# Altium footprint library Misc.PcbLib: 133 footprints (part 8 of 9)
Each footprint in its own frame and in the unit in brackets; x right, y up, seen from the top. Pads: shape width x height; smd on the part's side, far side on the other; paste and mask are expansions set on the pad; w line width, h text height; cw(c..) or ccw(c..) is an arc to the next point about the centre after c.
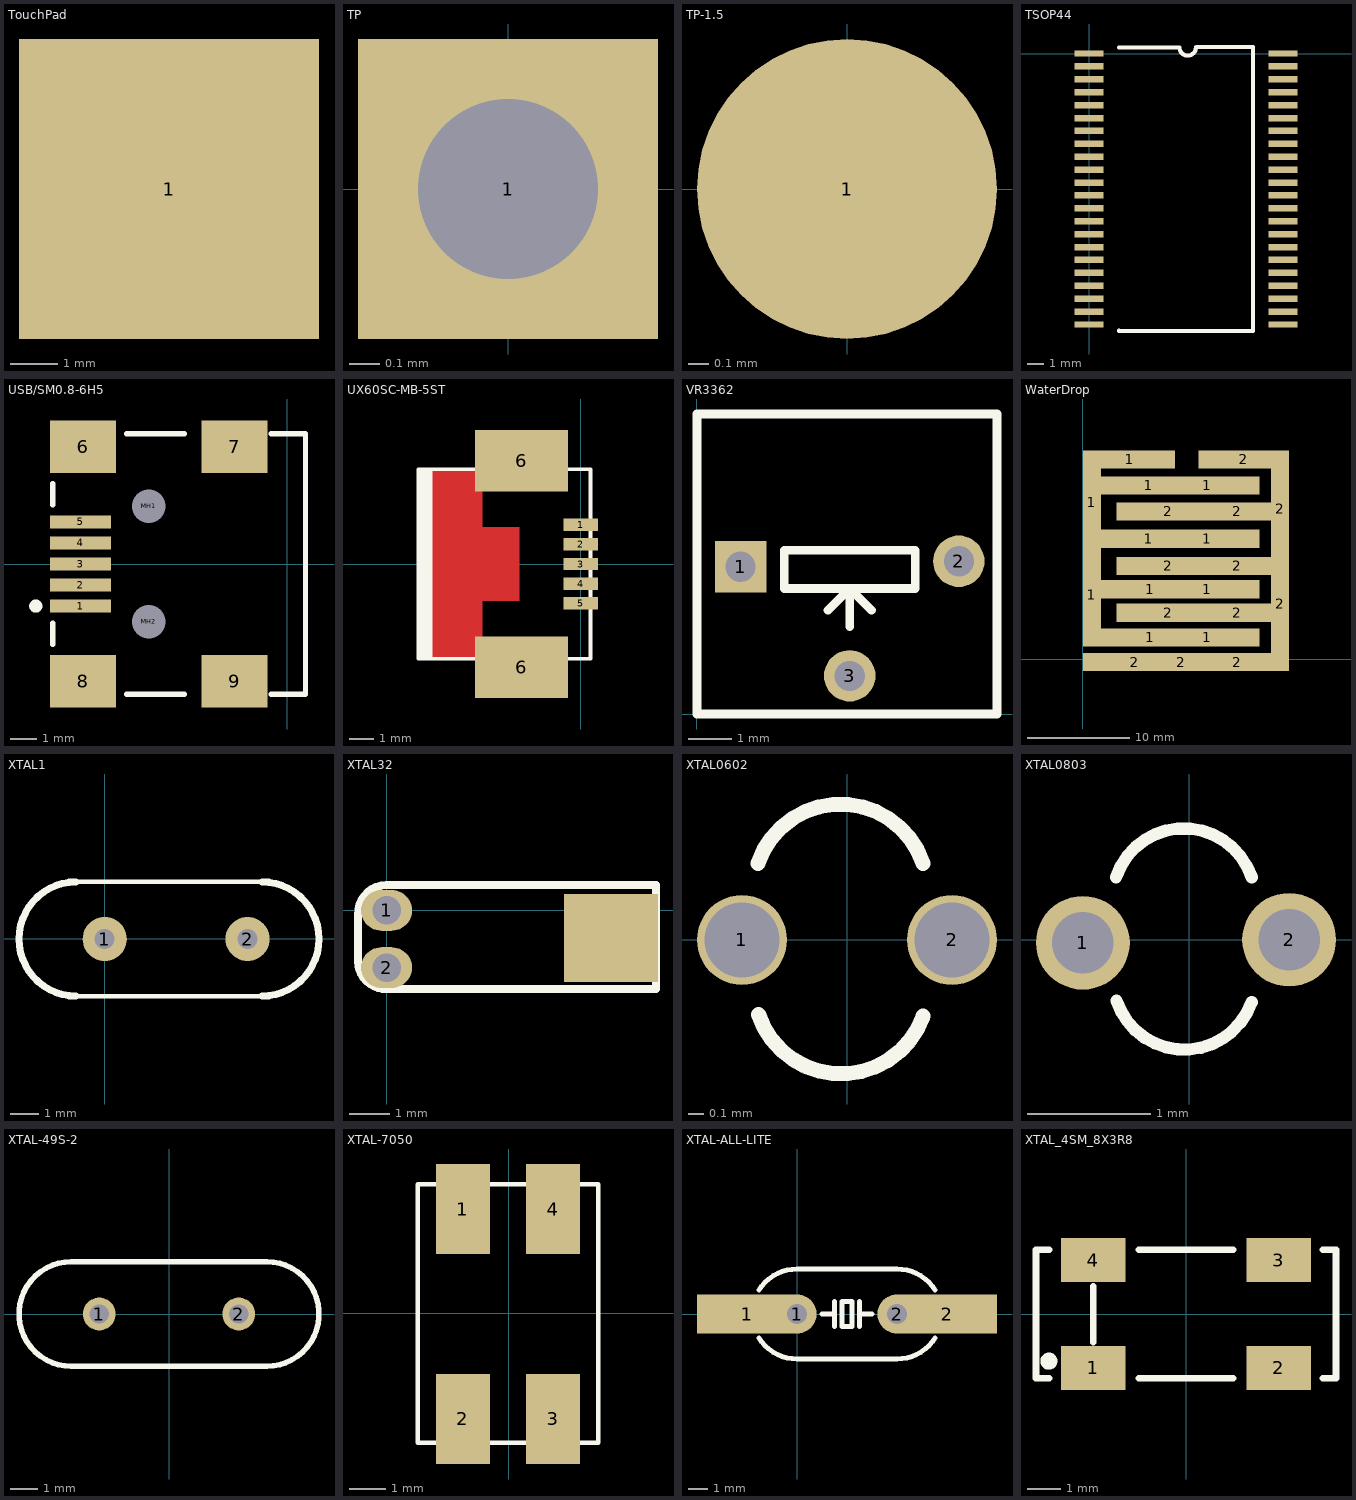
[diagram p7: the footprints below, top view; thin cyan lines are the x and y axes]

## TouchPad [mil] "PCB TouchPad"
pads (1):
  rect 250x250 smd: 1(-49510,-49455)

## TP [mm] "2.00MM Hole"
pads (1):
  rect 1x1 hole 0.6: 1(0,0)

## TP-1.5 [mm]
pads (1):
  round 1.5 smd: 1(0,0)

## TSOP44 [mm]
pads (44):
  rect 1.8x0.4 smd: 1(-0.009,0.001) 2(-0.009,-0.799) 3(-0.009,-1.599) 4(-0.009,-2.399) 5(-0.009,-3.199) 6(-0.009,-3.999) 7(-0.009,-4.799) 8(-0.009,-5.599) 9(-0.009,-6.399) 10(-0.009,-7.199) 11(-0.009,-7.999) 12(-0.009,-8.799) 13(-0.009,-9.599) 14(-0.009,-10.399) 15(-0.009,-11.199) 16(-0.009,-11.999) 17(-0.009,-12.799) 18(-0.009,-13.599) 19(-0.009,-14.399) 20(-0.009,-15.199) 21(-0.009,-15.999) 22(-0.009,-16.799) 23(11.991,-16.799) 24(11.991,-15.999) 25(11.991,-15.199) 26(11.991,-14.399) 27(11.991,-13.599) 28(11.991,-12.799) 29(11.991,-11.999) 30(11.991,-11.199) 31(11.991,-10.399) 32(11.991,-9.599) 33(11.991,-8.799) 34(11.991,-7.999) 35(11.991,-7.199) 36(11.991,-6.399) 37(11.991,-5.599) 38(11.991,-4.799) 39(11.991,-3.999) 40(11.991,-3.199) 41(11.991,-2.399) 42(11.991,-1.599) 43(11.991,-0.799) 44(11.991,0.001)
Top Overlay:
  lines w0.2: 1.826,-17.199 10.156,-17.199
  lines w0.254: 1.846,-17.18 1.826,-17.199 10.156,-17.199 10.156,0.401 6.624,0.401 ; 1.846,0.381 5.588,0.381 ccw(c6.096,0.381) 6.604,0.381

## USB/SM0.8-6H5 [mm]
pads (11):
  rect 2.3x0.5 smd: 1(-7.85,-1.6) 2(-7.85,-0.8) 3(-7.85,0) 4(-7.85,0.8) 5(-7.85,1.6)
  rect 2.5x2 smd: 6(-7.75,4.45) 7(-1.996,4.45) 8(-7.75,-4.45) 9(-1.996,-4.45)
  round 0.6 hole 1.27 unplated: MH1(-5.25,2.2) MH2(-5.25,-2.2)
Top Overlay:
  circle w0.25: c-9.55,-1.6 r0.125
  lines w0.2: -8.9,-3.05 -8.9,-2.25 ; -8.9,2.25 -8.9,3.05 ; -6.1,-4.95 -3.9,-4.95 ; -6.1,4.95 -3.9,4.95 ; -0.6,-4.95 0.7,-4.95 0.7,4.95 -0.6,4.95

## UX60SC-MB-5ST [mm] "Mini USB B/AB female"
height 3.95
pads (7):
  rect 1.4x0.5 smd: 1(0,1.6) 2(0,0.8) 3(0,0) 4(0,-0.8) 5(0,-1.6)
  rect 3.8x2.5 smd: 6(-2.4,-4.2) 6(-2.4,4.2)
Top Layer:
  pour cut-out: -6.6,3.85 -6.6,-3.85 -4,-3.85 -4,-1.5 -2.5,-1.5 -2.5,1.5 -4,1.5 -4,3.85
Top Overlay:
  rectangle: -6.6,-3.84 -6.1,3.84
  lines w0.152: -6.1,-3.85 -6.1,3.85 ; -6.6,-3.85 0.4,-3.85 0.4,3.85 -6.6,3.85 -6.6,-3.85
3D body: height 3.95, standoff 0, extent -6.6,-4.9 0.4,4.9

## VR3362 [mm] "Thru-Hole; 3 Leads"
height 3.9
pads (3):
  rect 1.2x1.2 hole 0.7: 1(1.016,3.429)
  round 1.2 hole 0.7: 2(6.096,3.556) 3(3.556,0.889)
Top Overlay:
  lines w0.2: 0,0 0,6.985 6.985,6.985 6.985,0 0,0
  lines w0.203: 3.048,2.413 3.556,2.921 3.556,2.032 ; 3.683,2.794 4.064,2.413 ; 2.032,2.921 2.032,3.81 5.08,3.81 5.08,2.921 2.032,2.921

## WaterDrop [mil]
pads (23):
  rect 70x400 smd: 1(35,250) 1(35,605) 2(760,215) 2(760,580)
  rect 350x70 smd: 1(180,770) 2(620,770)
  rect 400x70 smd: 1(255,465) 1(255,670) 1(260,85) 1(260,270) 1(480,85) 1(480,270) 1(480,465) 1(480,670) 2(200,-10) 2(330,180) 2(330,360) 2(330,570) 2(380,-10) 2(595,-10) 2(595,180) 2(595,360) 2(595,570)

## XTAL1 [mil]
height 78.74
pads (2):
  round 62 hole 28: 1(-0.36,-0.2) 2(199.64,-0.2)
Top Overlay:
  lines w6.3: -40.36,-80.2 219.64,-80.2 ; -40.36,79.8 219.64,79.8
  lines w10: -40.36,-80.2 cw(c-40.36,-0.2) -40.36,79.8 ; 219.64,-80.2 ccw(c219.64,-0.2) 219.64,79.8

## XTAL32 [mil]
pads (3):
  oval 50x40 hole 28: 1(0,0) 2(0,-56)
  rect 92.13x86 smd: ""(220,-27)
Top Overlay:
  lines w8: -28,-50 ccw(c-0.5,-49.5) 0,-77 264,-77 264,25 0,25 ccw(c0.5,-3.5) -28,-4 -28,-50

## XTAL0602 [mm]
height 5.08
pads (2):
  round 0.6 hole 0.5: 1(-0.7,0) 2(0.7,0)
Top Overlay:
  lines w0.1: -0.595,0.508 cw(c-0.043,0.324) 0.508,0.508 ; -0.59,-0.496 ccw(c-0.039,-0.312) 0.508,-0.508

## XTAL0803 [mil]
pads (2):
  round 30 hole 19.68: 1(-34,-1) 2(32,0)
Top Overlay:
  lines w3.94: -23.41,20 cw(c-1.7,12.77) 20,20 ; -23.25,-19.53 ccw(c-1.54,-12.29) 20,-20

## XTAL-49S-2 [mm] "Radial Cap, Thru-Hole; 2 Leads; 0.2 in Pin Spacing"
pads (2):
  round 1.2 hole 0.7: 1(-2.54,0) 2(2.54,0)
Top Overlay:
  lines w0.203: -3.556,-1.905 cw(c-3.556,0) -3.556,1.905 3.556,1.905 cw(c3.556,0) 3.556,-1.905 -3.556,-1.905
3D body: height 3.22, standoff -2.41, extent -5.334,-2.054 5.334,2.054

## XTAL-7050 [mm]
pads (4):
  rect 1.5x2.5 smd: 1(-1.27,2.894) 2(-1.27,-2.922) 3(1.23,-2.922) 4(1.23,2.894)
Top Overlay:
  lines w0.12: -2.52,-3.581 2.48,-3.581 2.48,3.581 -2.52,3.581 -2.52,-3.581
3D body: height 1, standoff 0, extent -2.5,-3.449 2.5,3.551

## XTAL-ALL-LITE [mm]
pads (4):
  rect 5.08x2 smd: 1(-2.54,0) 2(7.62,0)
  round 2 hole 1: 1(0,0) 2(5.08,0)
Top Overlay:
  lines w0.254: -1.939,-1.212 ccw(c0,0) 0,-2.286 5.08,-2.286 ccw(c5.08,0) 7.019,-1.212 ; -1.939,1.212 cw(c0,0) 0,2.286 5.08,2.286 cw(c5.08,0) 7.019,1.212 ; 1.27,0 1.905,0 ; 1.905,-0.635 1.905,0.635 ; 3.175,-0.635 3.175,0.635 ; 3.175,0 3.81,0 ; 2.286,-0.635 2.794,-0.635 2.794,0.635 2.286,0.635 2.286,-0.635

## XTAL_4SM_8X3R8 [mm]
height 2
pads (4):
  rect 1.9x1.3 smd: 1(-2.75,-1.6) 2(2.75,-1.6) 3(2.75,1.6) 4(-2.75,1.6)
Top Overlay:
  circle w0.254: c-4.064,-1.397 r0.127
  lines w0.203: -4.064,-1.905 -4.445,-1.905 -4.445,1.905 -4.064,1.905 ; -2.75,-0.838 -2.75,0.813 ; -1.397,-1.905 1.397,-1.905 ; -1.397,1.905 1.397,1.905 ; 4.064,-1.905 4.445,-1.905 4.445,-1.651 4.445,1.651 4.445,1.905 4.064,1.905